# Altium schematic symbol library Nadim Altium Lib-Univ.SchLib: 387 symbols (part 2 of 2)
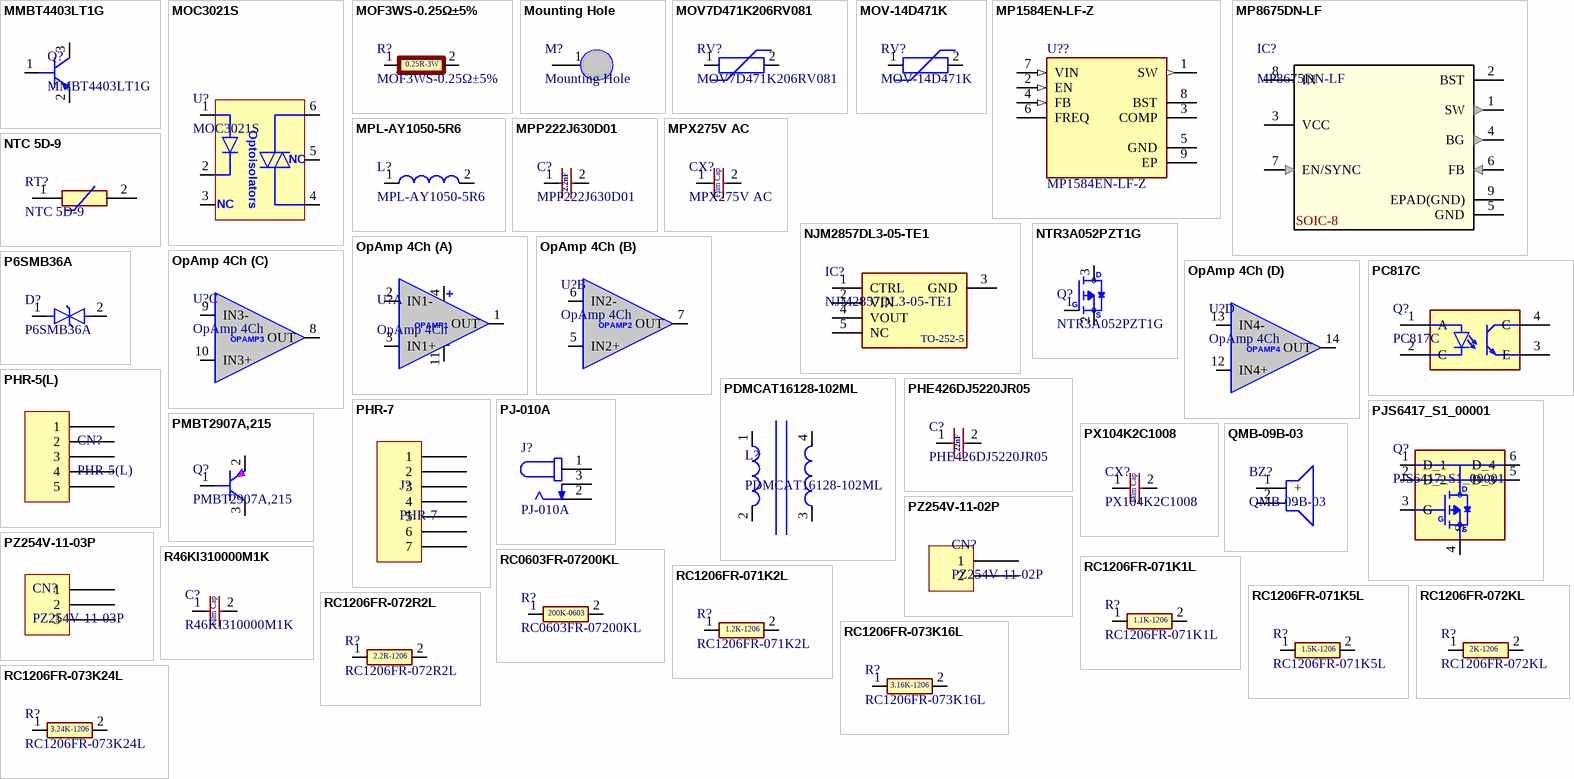
[diagram p10: symbols MMBT4403LT1G to RC1206FR-073K24L]

## MOC3021S
designator U?
Optoisolators:  50mA 400V 1.15V Two-way thyristor SMD-6P Triac, SCR Output Optoisolators ROHS; LCSC Part #: C5242; LCSC Part # op: C115465
footprint SMD-6P (SOP254P1016X400-6N)
pins: 1, 2, 3 NC, 4, 5 NC, 6
text: Optoisolators

## MOF3WS-0.25Ω±5%
designator R?
RES:  TH 0.25Ω 3W ±700ppm/℃ ±5% Plugin,D5xL15.5mm Through Hole Resistors ROHS; LCSC Part #: C714582
footprint Res_TH 3W_LS20 - duplicate - duplicate (Res_TH 3W)
pins: 1, 2
text: 0.25R-3W

## Mounting Hole
designator M?
MOUNT: Mount PCB
footprint M2.0 (2.0MM)
footprint M2.8 (2.8MM)
footprint M3.0 (2.8MM)
footprint M3.2 (3.2)
footprint M4.0 (4MM)
footprint M3.3 (3.3)
footprint M3.5 (3.5)
footprint M3.5 (3.5)
pins: 1

## MOV7D471K206RV081
designator RV?
MOV 470V 4.5 kA Varistor 1 Circuit Through Hole Disc 14mm; LCSC Part #: C22390367
footprint MOV14D471K
pins: 1, 2

## MOV-14D471K
designator RV?
MOV 470V 4.5 kA Varistor 1 Circuit Through Hole Disc 14mm; LCSC Part #: C1527439
footprint MOV14D471K
pins: 1, 2

## MP1584EN-LF-Z
designator U??
Buck Switching Regulator IC Positive Adjustable 0.8V 1 Output 3A 8-SOIC _0.154, 3.90mm Width_ Exposed Pad; MF: Monolithic Power; SnapEDA_Link: https://www.snapeda.com/parts/MP1584EN-LF-Z/Monolithic%20Power%20Systems%20Inc./view-part/587890/?ref=snap; Availability: Unavailable; Package: SOIC-8 MPS; Price: None; MP: MP1584EN-LF-Z; Value: *
footprint SOIC127 EPAD 9N (SOIC127P600X175-9N)
pins: 1 SW, 2 EN, 3 COMP, 4 FB, 5 GND (power), 6 FREQ, 7 VIN, 8 BST, 9 EP (power)

## MP8675DN-LF
designator IC?
SMPS: 4.5V to 40V Input Range / 6A Continuous Output Current / FP: SOIC-8 (8SOIC)
footprint SOIC-8 EPAD (SOIC-8)
pins: 1 SW, 2 BST, 3 VCC, 4 BG, 5 GND, 6 FB, 7 EN/SYNC, 8 IN, 9 EPAD(GND)
text: SOIC-8

## MPL-AY1050-5R6
designator L?
INDUCTOR: 5.6UH 9.8A 13 MOHM / SMD LS-9.2 D10X11 (FP-CIP1040); Manufacturer: Monolithic Power Systems; Supplier: Digikey; Supplier Part Number: 1589-MPL-AY1050-5R6CT-ND; Manufacturer Part Number: MPL-AY1050-5R6; RoHS: No; Stock: 424; Pricing: 1=1.85, 10=1.571, 25=1.448, 50=1.2938, 100=1.0782, 250=1.04736 (USD)
footprint INDUCTOR LS-9.2 D10X11 CIP1040
pins: 1, 2

## MPP222J630D01
designator C?
CAP Film: 2.2nF 630V ±5% Plugin,P=10mm Polypropylene Film Capacitors (CBB) / LS-10mm; LCSC Part #: C434238
footprint Film Capacitor LS-10MM
pins: 1, 2
text: 2.2nF

## MPX275V AC
designator CX?
CAP: Film MPX275V AC X2 / 105K 40/110/56 / LS-22.5MM
footprint CAP 470nF 275V AC
pins: 1, 2
text: Film Cap

## NJM2857DL3-05-TE1
designator IC?
LDO: IC Reg Linear 5V 1.5A / TO252-5; Manufacturer: Japan Radio Company; Supplier: Digikey; Supplier Part Number: 2129-NJM2857DL3-05-TE1TR-ND; Manufacturer Part Number: NJM2857DL3-05-TE1; RoHS: No; Pricing: 3000=0.56786, 6000=0.53947, 15000=0.51919 (USD)
footprint TO-252-5
pins: 1 CTRL, 2 VIN, 3 GND, 4 VOUT, 5 NC
text: TO-252-5

## NTC 5D-9
designator RT?
NTC: 5Ω 3A Plugin,P=7.5mm NTC Thermistors ROHS; LCSC Part #: C5240595
footprint NTC 5D-9 LS7.5MM (NTC 5D-9)
pins: 1, 2

## NTR3A052PZT1G
designator Q?
MOSFET: P-CH 20V 3.6A SOT23; LCSC Part #: C604479
footprint SOT-23-3
pins: 1 G, 2 S, 3 D

## OpAmp 4Ch
designator U?
Opamp: 4 Ch
part A pins: 1 OUT, 2 IN1-, 3 IN1+, 4 VCC, 11 GND
part B pins: 5 IN2+, 6 IN2-, 7 OUT
part C pins: 8 OUT, 9 IN3-, 10 IN3+
part D pins: 12 IN4+, 13 IN4-, 14 OUT
part A text: +; OPAMP1; -
part B text: OPAMP2
part C text: OPAMP3
part D text: OPAMP4

## P6SMB36A
designator D?
DIODE TVS: 12A 600W 49.9V 37.8V 30.8V  ESD and Surge Protection (TVS/ESD) / SMB(DO-214AA); Manufacturer_Name: Wurth Elektronik; Manufacturer_Part_Number: 824521302; Datasheet Link: https://www.we-online.de/katalog/datasheet/824521302.pdf; Height: 2.65mm; Mouser Part Number: 710-824521302; Mouser Price/Stock: https://www.mouser.co.uk/ProductDetail/Wurth-Elektronik/824521302?qs=sPbYRqrBIVltb23DqWk1Tg%3D%3D; LCSC Part #: C7436541
footprint DO-214AA(SMB)
pins: 1, 2

## PC817C
designator Q?
OPTO: 5kV 50mA 100mV@1mA,20mA 1 6V 1.2V DC SMD-4P Transistor, Photovoltaic Output Optoisolators; LCSC PART #: C3025164
footprint PC817C SMD-4P (SMD-4P)
pins: 1 A, 2 C, 3 E, 4 C

## PDMCAT16128-102ML
designator L?
INDUCTOR: 1mH@1kHz 13mΩ 2 Plugin,20x18mm Choke, Common Mode Filters ROHS; LCSC Part #: C2829011
footprint CHOKE_10*7 (Res_TH 3W)
pins: 1, 2, 3, 4

## PHE426DJ5220JR05
designator C?
CAP Film: 22nF 100V ±5% Plugin,LS=5mm Polypropylene Film Capacitors (CBB); LCSC Part #: C3800208
footprint Film Capacitor LS-5MM
pins: 1, 2
text: 22nF

## PHR-5(L)
designator CN?
HOUSING: 2.0mm 5P 6mm; LCSC Part #: C2941743
pins: 1, 2, 3, 4, 5

## PHR-7
designator J?
HOUSING: 2MM 7PINS; LCSC Part #: C5349745
pins: 1, 2, 3, 4, 5, 6, 7

## PJ-010A
designator J?
CON: 2.0 mm Center Pin, 2.5 A, Vertical, Panel Mount, Dc Power Jack Connector; LCSC Part #: C3095819
footprint CON CUI_PJ-010A
pins: 1, 2, 3

## PJS6417_S1_00001
designator Q?
MOSFET: P-Channel 20 V 6.5A (Ta) 2W SOT-23-6; LCSC Part #: C6252099
footprint SOT-23-6 (SOT95P280X145-6N)
pins: 1 D_1, 2 D_2, 3 G, 4 S, 5 D_3, 6 D_4
text: D

## PMBT2907A,215
designator Q?
TRANSISTOR TH: 60V 250mW 600mA PNP SOT-23(B-E-C); LCSC PART #: C8665
footprint TO-92
pins: 1 B, 2 E, 3 C

## PX104K2C1008
designator CX?
CAP: Film 100NF PX104K2C1008 AC X2 / LS-10MM
footprint FILM CAP LS-10MM X2 AC
pins: 1, 2
text: Film Cap

## PZ254V-11-02P
designator CN?
Header Male: 2.5mm 2P 6mm; LCSC Part #: C492401
footprint JST 2P 2.54MM-NF (JST 2P 2.54MM)
pins: 1, 2

## PZ254V-11-03P
designator CN?
Header Male: 2.5mm 3P 6MM; LCSC Part #: C2937625
footprint 3pos
pins: 1, 2, 3

## QMB-09B-03
designator BZ?
Loudspeaker or Buzzer: 85dB, Passive, Dia-9mm, LS-4MM; LCSC Part #: C96256
footprint Buzzer LS-4MM
pins: 1 +, 2 -

## R46KI310000M1K
designator C?
CAP: 100nF ±20% X2 275V Plugin,P=15mm Safety Capacitors ROHS; LCSC Part #: C696790
footprint CAP_FILM_LS15
pins: 1, 2
text: Film Cap

## RC0603FR-07200KL
designator R?
RES: 200K OHM 1% .125W 0603 75V; LCSC Part #: C105574
footprint 0805+0603 RES FP
pins: 1, 2
text: 200K-0603

## RC1206FR-071K1L
designator R?
RES: 1.1K OHM 1% 1/4W 1206
footprint 1206-RES
pins: 1, 2
text: 1.1K-1206

## RC1206FR-071K2L
designator R?
RES: 1.2K OHM 1% 1/4W 1206
footprint 1206-RES
pins: 1, 2
text: 1.2K-1206

## RC1206FR-071K5L
designator R?
RES: 1.5K OHM 1% 1/4W 1206
footprint 1206-RES
pins: 1, 2
text: 1.5K-1206

## RC1206FR-072KL
designator R?
RES: 2K OHM 1% 1/4W 1206
footprint 1206-RES
pins: 1, 2
text: 2K-1206

## RC1206FR-072R2L
designator R?
RES: 2.2 OHM 1% 1/4W 1206; LCSC Part #: C137327
footprint 1206-RES
pins: 1, 2
text: 2.2R-1206

## RC1206FR-073K16L
designator R?
RES: 3.16K OHM 1% 1/4W 1206
footprint 1206-RES
pins: 1, 2
text: 3.16K-1206

## RC1206FR-073K24L
designator R?
RES: 3.24K OHM 1% 1/4W 1206
footprint 1206-RES
pins: 1, 2
text: 3.24K-1206

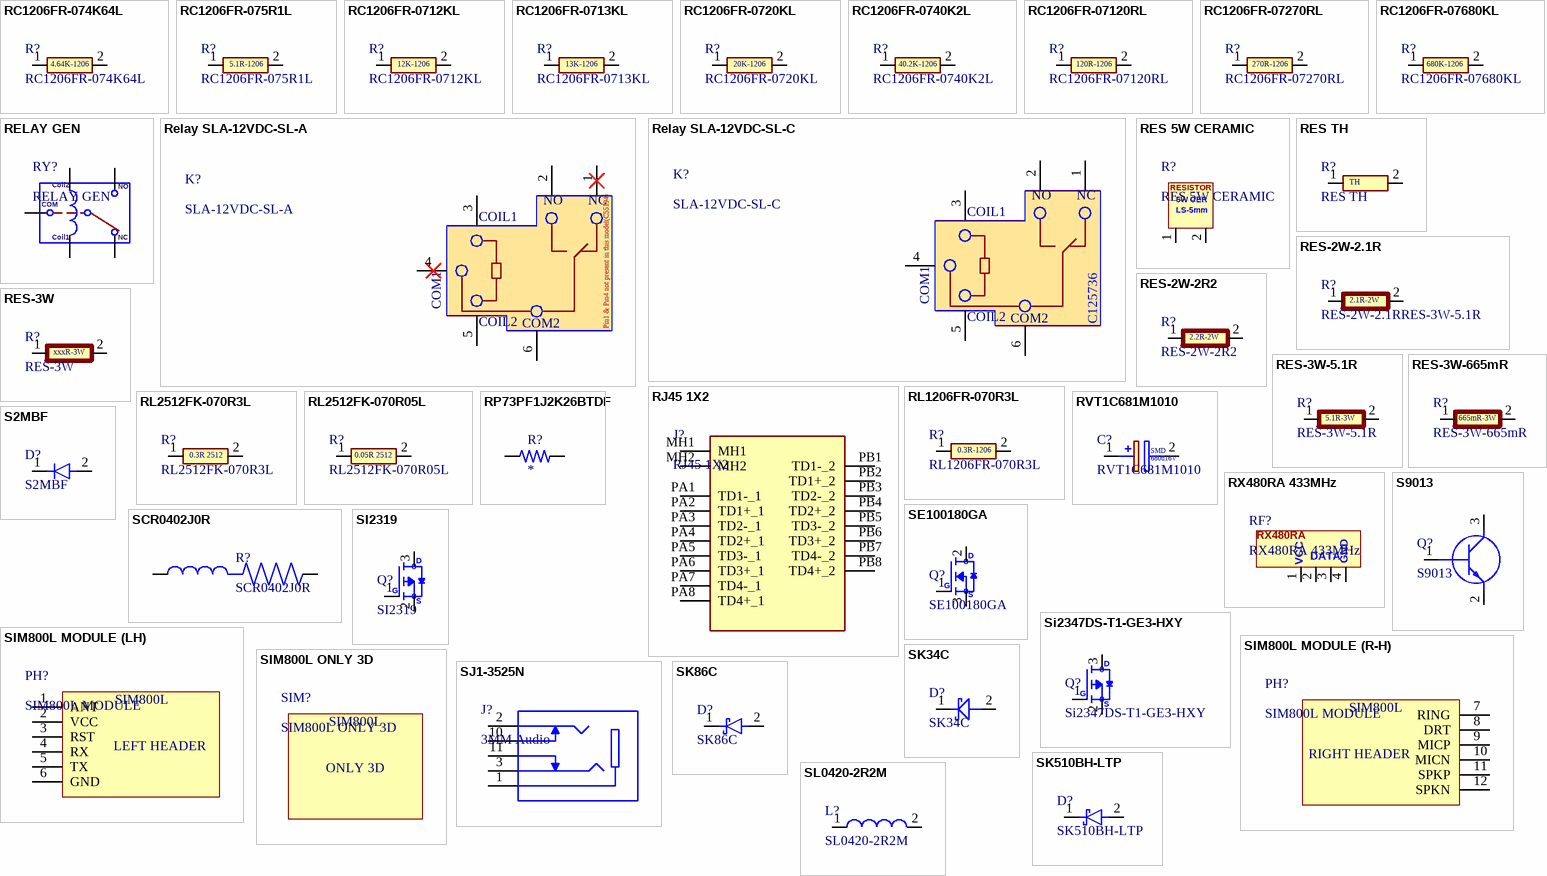
[diagram p7: symbols RC1206FR-074K64L to SL0420-2R2M]

## RC1206FR-074K64L
designator R?
RES: 4.64K OHM 1% 1/4W 1206; LCSC Part #: C488837
footprint 1206-RES
pins: 1, 2
text: 4.64K-1206

## RC1206FR-075R1L
designator R?
RES: 5.1 OHM 1% 1/4W 1206
footprint 1206-RES
pins: 1, 2
text: 5.1R-1206

## RC1206FR-0712KL
designator R?
RES: 12K OHM 1% 1/4W 1206
footprint 1206-RES
pins: 1, 2
text: 12K-1206

## RC1206FR-0713KL
designator R?
RES: 13K OHM 1% 1/4W 1206
footprint 1206-RES
pins: 1, 2
text: 13K-1206

## RC1206FR-0720KL
designator R?
RES: 20K OHM 1% 1/4W 1206; LCSC Part #: C114940
footprint 1206-RES
pins: 1, 2
text: 20K-1206

## RC1206FR-0740K2L
designator R?
RES: 40.2K OHM 1% 1/4W 1206
footprint 1206-RES
pins: 1, 2
text: 40.2K-1206

## RC1206FR-07120RL
designator R?
RES: 120 OHM 1% 1/4W 1206; LCSC PART #: C114928
footprint 1206-RES
pins: 1, 2
text: 120R-1206

## RC1206FR-07270RL
designator R?
RES: 270 OHM 1% 1/4W 1206
footprint 1206-RES
pins: 1, 2
text: 270R-1206

## RC1206FR-07680KL
designator R?
RES: 680K OHM 1% 1/4W 1206
footprint 1206-RES
pins: 1, 2
text: 680K-1206

## RELAY GEN
designator RY?
RELAY: Single-Pole, Double-Throw Relay
pins: COIL1, COIL2, COM, NC, NO
text: Coil2; Coil1

## Relay SLA-12VDC-SL-A
designator K?, comment SLA-12VDC-SL-A
RELAY: 250V@AC 12V 30A Normal Open:1A(SPST-Normal Open) Plugin,27.6x32mm; Manufacturer_Name: CUI Devices; Manufacturer_Part_Number: PR23-12V-900-1C; Datasheet Link: https://www.cuidevices.com/product/resource/pr23.pdf; Height: 20.3mm; Mouser Part Number: 179-PR23-12V-900-1C; Mouser Price/Stock: https://www.mouser.co.uk/ProductDetail/CUI-Devices/PR23-12V-900-1C?qs=T%252BzbugeAwjgw70sSt2DS0w%3D%3D; Arrow Part Number: PR23-12V-900-1C; Arrow Price/Stock: https://www.arrow.com/en/products/pr23-12v-900-1c/cui-devices?region=nac; LCSC PART #: C55194
footprint Relay 30A 12V (L-32.5 mm   W-27.4 mm   H-20.4 mm)
pins: 1 NC, 2 NO, 3 COIL1, 4 COM_1, 5 COIL2, 6 COM_2
text: COM1; COM2; Pin1 & Pin4 not present in this model(C55194)

## Relay SLA-12VDC-SL-C
designator K?, comment SLA-12VDC-SL-C
RELAY: 250V@AC 12V 30A SPDT (1 Form C) Plugin,27.6x32mm Power Relays ROHS; Manufacturer_Name: CUI Devices; Manufacturer_Part_Number: PR23-12V-900-1C; Datasheet Link: https://www.cuidevices.com/product/resource/pr23.pdf; Height: 20.3mm; Mouser Part Number: 179-PR23-12V-900-1C; Mouser Price/Stock: https://www.mouser.co.uk/ProductDetail/CUI-Devices/PR23-12V-900-1C?qs=T%252BzbugeAwjgw70sSt2DS0w%3D%3D; Arrow Part Number: PR23-12V-900-1C; Arrow Price/Stock: https://www.arrow.com/en/products/pr23-12v-900-1c/cui-devices?region=nac; LCSC PART #: C55194
footprint Relay 30A 12V (L-32.5 mm   W-27.4 mm   H-20.4 mm)
pins: 1 NC, 2 NO, 3 COIL1, 4 COM_1, 5 COIL2, 6 COM_2
text: COM1; COM2; C125736

## RES 5W CERAMIC
designator R?
RES CER: 5W CERAMIC LS-5MM
pins: 1, 2
text: RESISTOR; 5W CER; LS-5mm

## RES TH
designator R?
RES: TH
footprint 1206-RES
pins: 1, 2
text: TH

## RES-2W-2.1R
designator R?, comment RES-2W-2.1RRES-3W-5.1R
RES: 2.1 OHM 1% 2W TH
footprint Res_TH 3W
pins: 1, 2
text: 2.1R-2W

## RES-2W-2R2
designator R?
RES: 2.2 OHM 1% 2W TH
footprint RES TH 2W LS-8mm
pins: 1, 2
text: 2.2R-2W

## RES-3W
designator R?
RES:  3W TH; Parameter 1: *
footprint Res_TH 3W
pins: 1, 2
text: xxxR-3W

## RES-3W-5.1R
designator R?
RES: 5.1 OHM 1% 3W TH
footprint Res_TH 3W
pins: 1, 2
text: 5.1R-3W

## RES-3W-665mR
designator R?
RES: 665m OHM 5% 3W TH
footprint Res_TH 3W
pins: 1, 2
text: 665mR-3W

## RJ45 1X2
designator J?
Connector; Mfr. Part #: RJ01-X5XX-092
footprint RJ45 Module 1X2
pins: MH1, MH2, PA1 TD1-_1, PA2 TD1+_1, PA3 TD2-_1, PA4 TD2+_1, PA5 TD3-_1, PA6 TD3+_1, PA7 TD4-_1, PA8 TD4+_1, PB1 TD1-_2, PB2 TD1+_2, PB3 TD2-_2, PB4 TD2+_2, PB5 TD3-_2, PB6 TD3+_2, PB7 TD4-_2, PB8 TD4+_2

## RL1206FR-070R3L
designator R?
RES: 0.3 OHM 1% 1/4W / 1206
footprint 1206-RES
pins: 1, 2
text: 0.3R-1206

## RL2512FK-070R3L
designator R?
RES: 0.3 OHM 1% 1W 2512
footprint 2512 RES (RESC6432X70N)
pins: 1, 2
text: 0.3R 2512

## RL2512FK-070R05L
designator R?
RES: 0.05 OHM(50mR) 1% 1W 2512; LCSC Part #: C876461
footprint 2512 RES (RESC6432X70N)
pins: 1, 2
text: 0.05R 2512

## RP73PF1J2K26BTDF
designator R?
MP: RP73PF1J2K26BTDF; Package: None; Price: None; Value: *; Availability: Unavailable
footprint RESC1608X50N
pins: 1, 2

## RVT1C681M1010
designator C?
CAP SMD: 680UF 20% 16V SMD; LCSC PART #: C335987
footprint CAP SMD D10X10.2MM FP
pins: 1 +, 2 -
text: SMD; 680u16V

## RX480RA 433MHz
designator RF?
RF: RX480RA 433MHz D6MM 0402 T1 V4; LCSC Part #: C18198307
footprint RX480RA 433MHz
footprint RX480RA 433MHz - HORIZONTAL
pins: 1, 2, 3, 4
text: RX480RA; VCC; DATA; GND

## S2MBF
designator D?
DIODE: GEN 1KV 2A / DO-214AA, SMBF; LCSC Part #: C2993740
footprint SMBF (DO-214AA)
pins: 1, 2

## S9013
designator Q?
TRANSISTOR: 25V 300mW 120@50mA,1V 500mA NPN SOT-23; LCSC PART #: C5184425
footprint SOT-23-3
pins: 1 B, 2 E, 3 C

## SCR0402J0R
designator R?
REs: 0 OHM 5% 1/4W 0402; LCSC Part #: C3017451
footprint 0402-RES
pins: 1, 2

## SE100180GA
designator Q?
MOSFET: 100V 180A 300W 2.5mΩ@10V,40A 4V 1 N-channel TO-220 MOSFETs ROHS; LCSC Part #: C359175
footprint TO-220
pins: 1 G, 2 D, 3 S

## SI2319
designator Q?
MOSFET SMD:  P-CH 40V 5A SOT-23; LCSC Part #: C5337197
footprint SOT-23-3
pins: 1 G, 2 S, 3 D

## Si2347DS-T1-GE3-HXY
designator Q?
MOSFET: P-CH 30V 6A SOT23; LCSC Part #: C22366663
footprint SOT-23-3
pins: 1 G, 2 S, 3 D

## SIM800L MODULE (LH)
designator PH?, comment SIM800L MODULE
MODULE: SIM800L GSM 2G; LCSC Part #: C40877
footprint SIM800L MODULE (LEFT H)
pins: 1 ANT, 2 VCC, 3 RST, 4 RX, 5 TX, 6 GND
text: SIM800L; LEFT HEADER

## SIM800L MODULE (R-H)
designator PH?, comment SIM800L MODULE
MODULE: SIM800L GSM 2G; LCSC Part #: C40877
footprint SIM800L MODULE (RIGHT H)
pins: 7 RING, 8 DRT, 9 MICP, 10 MICN, 11 SPKP, 12 SPKN
text: SIM800L; RIGHT HEADER

## SIM800L ONLY 3D
designator SIM?
MODULE: SIM800L ONLY 3D
footprint SIM800L ONLY 3D New (ONLY 3D)
text: SIM800L; ONLY 3D

## SJ1-3525N
designator J?, comment 3MM Audio
AUDIO: 3.5mm headphone jack 30V 500mA Plugin Audio Connectors; Manufacturer_Name: CUI Devices; Manufacturer_Part_Number: SJ1-3525N; Datasheet Link: https://www.cuidevices.com/product/resource/pdf/sj1-352xn.pdf; Mouser Part Number: 490-SJ1-3525N; Mouser Price/Stock: https://www.mouser.co.uk/ProductDetail/CUI-Devices/SJ1-3525N?qs=WyjlAZoYn505QPmBO3I74g%3D%3D; Arrow Part Number: SJ1-3525N; Arrow Price/Stock: https://www.arrow.com/en/products/sj1-3525n/cui-devices?region=nac; LCSC Part #: C668604
footprint SJ13525N FP (3mm Audio)
pins: 1, 2, 3, 10, 11

## SK34C
designator D?
DIODE: Schottky 40V 550mV@3A 3A SMC(DO-214AB)  Diode; LCSC PART #: C105698
footprint SMC (DO-214AB)
pins: 1 K, 2 A

## SK86C
designator D?
DIODE: SCHOTTKY 60V 8A SMC(DO-214AB); LCSC Part #: C64338
footprint SMC (DO-214AB)
pins: 1, 2

## SK510BH-LTP
designator D?
DIODE: SCHOTTKY 850mV@5A 100V DO-214AA(SMB); LCSC PART #: C779066
footprint SMB (DO-214AA)
pins: 1, 2

## SL0420-2R2M
designator L?
INDUCTOR: 2.2uH 4.5A ±20% 5A SMD,4.5x4.1mm Inductors (SMD) ROHS; LCSC Part #: C22463806
footprint IND D4.5x4.1
pins: 1, 2

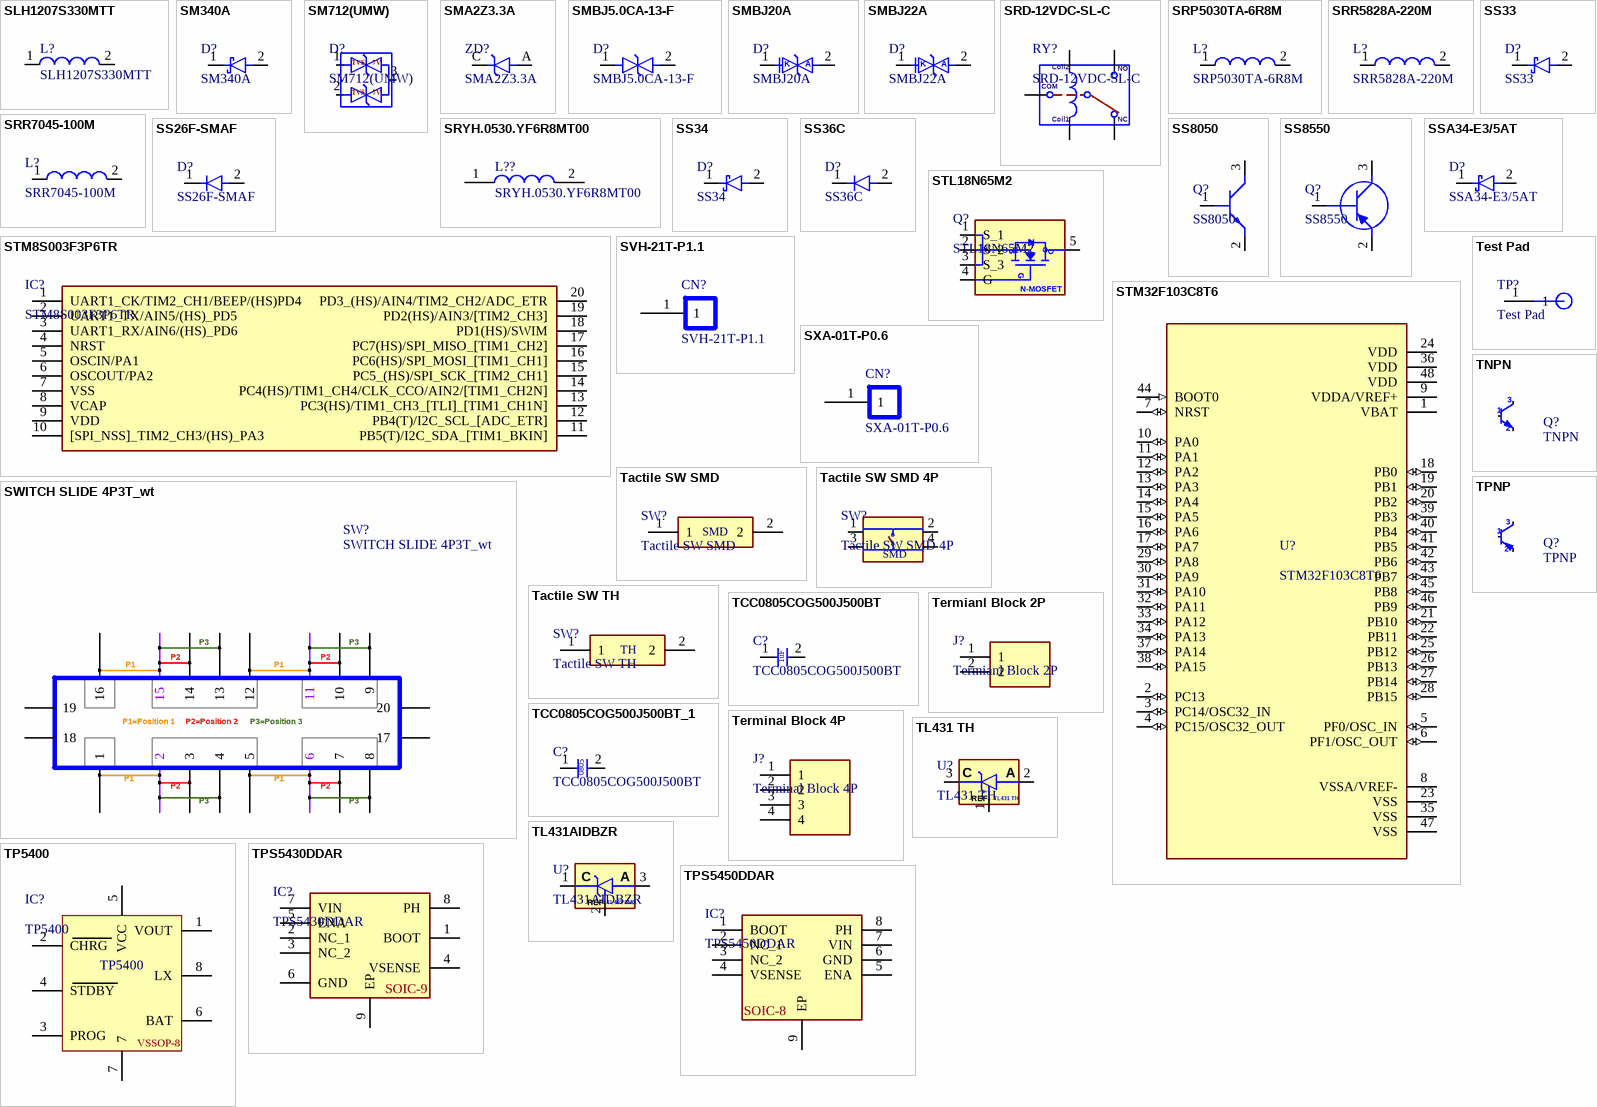
[diagram p8: symbols SLH1207S330MTT to TPS5450DDAR]

## SLH1207S330MTT
designator L?
3A 33uH ±20% SMD Power Inductors ROHS; LCSC Part #: C181844
footprint INDUCTOR LS-10 D12X12 (INDUCTOR 12X12, 10MM)
pins: 1, 2

## SM340A
designator D?
DIODE: SCHOTTKY 40V-3A 500mV@3A 3A DO-214AC(SMA); LCSC PART #: C383313
footprint DO-214AC(SMA)
pins: 1, 2

## SM712(UMW)
designator D?
DIODE TVS: 7V WM 11VC Voltage - Breakdown (Min) 6V / SOT-23; LCSC Part #: C7529144
footprint SOT-23-3
pins: 1, 2, 3
text: TVS; 7V

## SMA2Z3.3A
designator ZD?
DIODE: ZENER 3.3-3.47V 2W SMA; LCSC Part #: C22391967
footprint SMA
pins: A, C

## SMBJ5.0CA-13-F
designator D?
DIODE TVS: SMBJ5.0CA Series 600 W 5.0 V Surface Mount / DO-214AA; Manufacturer: Diodes; Package Body Material: Plastic; Diode Element Material: SILICON; Voltage Rating (DC): 5V; Number of Elements: 1; Max Power Dissipation: 600W; Polarity: Bidirectional; Max Breakdown Voltage: 7.23V; Max Surge Current: 65.2A; Reverse Breakdown Voltage: 6.4V; Clamping Voltage: 9.2V; Max Reverse Leakage Current: 1.6mA; Test Current: 10mA; Value: 1nF; Diode Type: TRANS VOLTAGE SUPPRESSOR; Time @ Peak Reflow Temperature-Max (s): 5s; Supplier: Digikey; Supplier Part Number: SMBJ5.0CA-FDICT-ND; Manufacturer Part Number: SMBJ5.0CA-13-F; RoHS: Yes; Category: TVS Diodes; Stock: 235596; Pricing: 1=0.26, 10=0.201, 100=0.1208, 500=0.11182, 1000=0.07875 (USD); Mounting Technology: Surface Mount; Case/Package: SMB; Pins: 2; Terminal Finish: Tin; Package Shape: Rectangular; Min Operating Temperature: -55°C; Max Operating Temperature: 150°C; Package Quantity: 1; Packaging: Tape and Reel; Series: SMBJ; Power Dissipation: 600W; Direction: Bidirectional; Reverse Standoff Voltage: 5V; Breakdown Voltage: 6.4V; Peak Pulse Power: 600W; Termination: SMD/SMT; Min Breakdown Voltage: 6.4V; Peak Pulse Current: 65.2A; Leakage Current: 1.6mA; Working Voltage: 5V; Max Output current: 65.2A; Clamping Voltage-Max: 9.2V; Moisture Sensitivity Level: 1; JESD-30 Code: R-PDSO-C2; Surface Mount: Yes; Terminal Position: DUAL; Technology: AVALANCHE; Peak Reflow Temperature (Cel): 245°C; Terminal Form: C BEND; Length: 4.57mm; Width: 3.9mm; Height: 2.62mm; Radiation Hardening: No; Lead Free: Contains Lead; RoHS Compliant: Yes
footprint DO-214AA(SMD) TVS
pins: 1, 2

## SMBJ20A
designator D?
DIODE TVS: 18.6A 600W 32.4V 24.5V Unidirectional 20V SMB ESD and Surge Protection (TVS/ESD) ROHS; LCSC Part #: C726828
footprint SMB (DO-214AA)
pins: 1, 2
text: K; A

## SMBJ22A
designator D?
DIODE TVS: 16.9A 600W 35.5V 24.4V 22V SMB ESD and Surge Protection (TVS/ESD) ROHS; LCSC Part #: C5331106
footprint SMB (DO-214AA)
pins: 1, 2
text: K; A

## SRD-12VDC-SL-C
designator RY?
RELAY: 250V@AC 12V 15A One Conversion: 1C (SPDT-Conversion) Plugin,15.6x19.2mm Power Relays ROHS; LCSC Part #: C30431
footprint RELAY_SRD-12VDC-SL-C
pins: COIL1, COIL2, COM, NC, NO
text: Coil2; Coil1

## SRP5030TA-6R8M
designator L?
INDUCTOR: 6.8UH 4A 76.2 MOHM SMD; Manufacturer: Bourns; Core Material: Carbonyl Powder; Saturation Current: 4.3A; Shielding: Shielded; DC Resistance (DCR): 76.2mR; Self Resonant Frequency: 19MHz; Test Frequency: 100kHz; Tolerance: 20%; Supplier: Digikey; Supplier Part Number: SRP5030TA-6R8MCT-ND; Manufacturer Part Number: SRP5030TA-6R8M; RoHS: No; Category: Fixed Inductors; Stock: 3620; Pricing: 1=1.41, 10=1.094, 25=0.9888, 50=0.9162, 100=0.8487, 250=0.76684, 500=0.70996, 1000=0.65708 (USD); Mounting Technology: Surface Mount; Case/Package: Nonstandard; Min Operating Temperature: -40°C; Max Operating Temperature: 150°C; Packaging: Cut Tape; Value: 6.8uH; Current Rating: 4A; RMS Current (Irms): 4A; Inductance Tolerance: 20%; Series: SRP5030TA; Length: 0.224inch; Width: 0.205inch; Height - Seated (Max): 0.118inch; Ratings: AEC-Q200; Reach SVHC Compliant: No; ComponentLink1URL: http://www.farnell.com/datasheets/2360568.pdf?src-supplier=Farnell; ComponentLink1Description: http://www.farnell.com/datasheets/2360568.pdf?src-supplier=Farnell; ComponentLink2URL: http://www.farnell.com/datasheets/2360568.pdf?src-supplier=Element14; ComponentLink2Description: http://www.farnell.com/datasheets/2360568.pdf?src-supplier=Element14; ComponentLink3URL: https://www.bourns.com/docs/Product-Datasheets/SRP5030TA.pdf?src-supplier=Digikey; ComponentLink3Description: https://www.bourns.com/docs/Product-Datasheets/SRP5030TA.pdf?src-supplier=Digikey; ComponentLink4URL: http://www.bourns.com/docs/Product-Datasheets/SRP5030TA.pdf?src-supplier=Digikey; ComponentLink4Description: http://www.bourns.com/docs/Product-Datasheets/SRP5030TA.pdf?src-supplier=Digikey; ComponentLink5URL: http://www.farnell.com/datasheets/2360568.pdf?src-supplier=Newark; ComponentLink5Description: http://www.farnell.com/datasheets/2360568.pdf?src-supplier=Newark
footprint INDUCTOR LS-3.9 D5.8X5.8
pins: 1, 2

## SRR5828A-220M
designator L?
INDUCTOR: 22UH 1.75A SHLD / SMD LS-3.9MM D5.8X5.8; Manufacturer: Bourns; Supplier: Digikey; Supplier Part Number: 118-SRR5828A-220MTR-ND; Manufacturer Part Number: SRR5828A-220M; RoHS: No; Pricing: 400=0.66665 (USD)
footprint INDUCTOR LS-3.9 D5.8X5.8
pins: 1, 2

## SRR7045-100M
designator L?
INDUCTOR: 10UH 1.9A ±20% 1.9A SMD,7x7mm Power Inductors / SMD LS-6MM D7X7; LCSC PART #: C1329516
footprint INDUCTOR LS-6MM D7X7
pins: 1, 2

## SRYH.0530.YF6R8MT00
designator L??
INDUCTOR: 6.8UH ±20% SMD,5.3x5.6mm Power Inductors; LCSC PART #: C5122867
footprint INDUCTOR D5.3X5.7
pins: 1, 2

## SS26F-SMAF
designator D?
DIODE: GEN 2A 60V 700mV@2A SMAF Diodes - General Purpose ROHS; Manufacturer_Name: Diodes Incorporated; Manufacturer_Part_Number: B230AF-13; Datasheet Link: https://www.diodes.com/assets/Datasheets/B220AFB230AFB240AFB245AF.pdf; Height: 1.1mm; Mouser Part Number: 621-B230AF-13; Mouser Price/Stock: https://www.mouser.co.uk/ProductDetail/Diodes-Incorporated/B230AF-13?qs=HXFqYaX1Q2zqB8pPoaCVUg%3D%3D; Arrow Part Number: B230AF-13; Arrow Price/Stock: https://www.arrow.com/en/products/b230af-13/diodes-incorporated; LCSC Part #: C2758577
footprint SMAF SMD
pins: 1, 2

## SS33
designator D?
DIODE: SCHOTTKY 30V-3A Single 550mV@3A 3A Schottky Diodes ROHS / DO-214AC(SMA); LCSC Part #: C64998
footprint SMA (DO-214AC)
pins: 1, 2

## SS34
designator D?
DIODE: SCHOTTKY 40V 3A / DO-214AC(SMA); LCSC PART #: C8678
footprint SMA (DO-214AC)
pins: 1, 2

## SS36C
designator D?
DIODE: GEN 60V Single 700mV@3A 3A Schottky Diodes ROHS / SMC(DO-214AB); Manufacturer_Name: Diodes Incorporated; Manufacturer_Part_Number: B550C-13-F; Datasheet Link: https://www.mouser.com/ds/2/115/ds13012-1142526.pdf; Height: 2.5mm; Mouser Part Number: 621-B550C-F; Mouser Price/Stock: https://www.mouser.co.uk/ProductDetail/Diodes-Incorporated/B550C-13-F?qs=UEP5Ic6BRave1jzuZzz4FA%3D%3D; Arrow Part Number: B550C-13-F; Arrow Price/Stock: https://www.arrow.com/en/products/b550c-13-f/diodes-incorporated?region=nac; LCSC PART #: C5449114
footprint DO-214AB(SMC)
pins: 1, 2

## SS8050
designator Q?
TRANSISTOR: 25V 300mW 1.5A NPN Bipolar (BJT) / SOT-23; LCSC PART #: C916392
footprint SOT-23-3
pins: 1 B, 2 E, 3 C

## SS8550
designator Q?
TRANSISTOR: 25V 300mW 120@100mA,1.0V 1.5A PNP SOT-23; LCSC PART #: C7420371
footprint SOT-23-3
pins: 1 B, 2 E, 3 C

## SSA34-E3/5AT
designator D?
DIODE: SCHOTTKY 40V 3A DO214AC; Manufacturer: Vishay Semiconductors; Max Surge Current: 75A; Max Reverse Current: 200uA; Forward Voltage: 490mV; Supplier: Digikey; Supplier Part Number: SSA34-E3/5ATGICT-ND; Manufacturer Part Number: SSA34-E3/5AT; RoHS: Yes; Category: Rectifier Diodes; Stock: 4334; Pricing: 1=0.49, 10=0.326, 100=0.2209, 500=0.17244, 1000=0.15637, 2000=0.14267 (USD); Mounting Technology: Surface Mount; Case/Package: SMA; Min Operating Temperature: -65°C; Max Operating Temperature: 150°C; Packaging: Tape and Reel; Package Quantity: 1; Forward Current: 3A; Average Rectified Current: 3A; Max Reverse Leakage Current: 200uA; Max Repetitive Reverse Voltage (Vrrm): 40V; Peak Non-Repetitive Surge Current: 75A; Max Reverse Voltage (DC): 40V; Series: -; Radiation Hardening: No; Lead Free: Lead Free; RoHS Compliant: Yes; ComponentLink1URL: https://datasheet.ciiva.com/16489/ssa33l-16489359.pdf?src-supplier=Future+Electronics; ComponentLink1Description: https://datasheet.ciiva.com/16489/ssa33l-16489359.pdf?src-supplier=Future+Electronics
footprint DO-214AC(SMA)
pins: 1, 2

## STL18N65M2
designator Q?
MOSFET: N-CH 650V 8A POWERFLAT HV / (VDFN-8-Power); LCSC Part #: C2970653
footprint VDFN-8-Power (STL18N65M2)
pins: 1 S_1, 2 S_2, 3 S_3, 4 G, 5 D
text: S; N-MOSFET

## STM8S003F3P6TR
designator IC?
MCU: Mainstream cost-effective series 8-bit MCU, featuring 8 KB Flash, 16 MHz CPU, and integrated EEPROM / TSSOP-20; LCSC Part #: C52717
footprint TSSOP-20
pins: 1 UART1_CK/TIM2_CH1/BEEP/(HS)PD4, 2 UART1_TX/AIN5/(HS)_PD5, 3 UART1_RX/AIN6/(HS)_PD6, 4 NRST, 5 OSCIN/PA1, 6 OSCOUT/PA2, 7 VSS, 8 VCAP, 9 VDD, 10 [SPI_NSS]_TIM2_CH3/(HS)_PA3, 11 PB5(T)/I2C_SDA_[TIM1_BKIN], 12 PB4(T)/I2C_SCL_[ADC_ETR], 13 PC3(HS)/TIM1_CH3_[TLI]_[TIM1_CH1N], 14 PC4(HS)/TIM1_CH4/CLK_CCO/AIN2/[TIM1_CH2N], 15 PC5_(HS)/SPI_SCK_[TIM2_CH1], 16 PC6(HS)/SPI_MOSI_[TIM1_CH1], 17 PC7(HS)/SPI_MISO_[TIM1_CH2], 18 PD1(HS)/SWIM, 19 PD2(HS)/AIN3/[TIM2_CH3], 20 PD3_(HS)/AIN4/TIM2_CH2/ADC_ETR

## STM32F103C8T6
designator U?
Mainstream enhanced ARM Cortex-M3 MCU, featuring 64 KB Flash, 72 MHz CPU, motor control, USB, and CAN.; LCSC Part #: C8734
footprint LQFP-48
pins: 1 VBAT (power), 2 PC13 (io), 3 PC14/OSC32_IN (io), 4 PC15/OSC32_OUT (io), 5 PF0/OSC_IN (io), 6 PF1/OSC_OUT (io), 7 NRST (io), 8 VSSA/VREF- (power), 9 VDDA/VREF+ (power), 10 PA0 (io), 11 PA1 (io), 12 PA2 (io), 13 PA3 (io), 14 PA4 (io), 15 PA5 (io), 16 PA6 (io), 17 PA7 (io), 18 PB0 (io), 19 PB1 (io), 20 PB2 (io), 21 PB10 (io), 22 PB11 (io), 23 VSS (power), 24 VDD (power), 25 PB12 (io), 26 PB13 (io), 27 PB14 (io), 28 PB15 (io), 29 PA8 (io), 30 PA9 (io), 31 PA10 (io), 32 PA11 (io), 33 PA12 (io), 34 PA13 (io), 35 VSS (power), 36 VDD (power), 37 PA14 (io), 38 PA15 (io), 39 PB3 (io), 40 PB4 (io), 41 PB5 (io), 42 PB6 (io), 43 PB7 (io), 44 BOOT0 (in), 45 PB8 (io), 46 PB9 (io), 47 VSS (power), 48 VDD (power)

## SVH-21T-P1.1
designator CN?
HOUSING CONTACT: 18-22 0.33 - 0.83; LCSC Part #: C160349
pins: 1

## SWITCH SLIDE 4P3T_wt
designator SW?
SWITCH SLIDE 4P3T 300MA 125V
footprint SW SLIDE 4P3T (SWITCH SLIDE 4P3T 300MA 125V)
pins: 1, 2, 3, 4, 5, 6, 7, 8, 9, 10, 11, 12, 13, 14, 15, 16, 17, 18, 19, 20
text: P3; P2; P1; P1=Position 1; P2=Position 2; P3=Position 3

## SXA-01T-P0.6
designator CN?
HOUSING CONTACT: 20~24 0.22~0.5; LCSC Part #: C160230
pins: 1

## Tactile SW SMD
designator SW?
SW: 3.5mm 2.5mm Rectangle button 50mA 6mm 300gf 12V SMD; LCSC Part #: C2888954
footprint Tactile SW 3.7X6.1 P7.5mm
pins: 1, 2
text: SMD

## Tactile SW SMD 4P
designator SW?
SW: 3.2mm 2.5mm Oval button Standing paste SPST SMD Tactile Switches ROHS; LCSC Part #: C2888954
footprint SW TACTILE 4P
pins: 1, 2, 3, 4
text: SMD

## Tactile SW TH
designator SW?
SW: Tactile SW TH
pins: 1, 2
text: TH

## TCC0805COG500J500BT
designator C?
CAP: CER 50pF 50V X7R 0805; LCSC Part #: C20539435
footprint 1206-CAP
pins: 1, 2
text: 1uF

## TCC0805COG500J500BT_1
designator C?, comment TCC0805COG500J500BT
CAP CER: 50V 50pF C0G ±5% 0805; LCSC Part #: C20539435
footprint 0805-CAP
pins: 1, 2
text: 0805

## Termianl Block 2P
designator J?
TERMINAL: 5.08 pitch 2P, Screw Terminal block; Manufacturer: Adam Equipment; Manufacturer Part Number: EB21A-02-D; Supplier 1: Digikey; RoHS: No; Category: Terminal Blocks; Stock 1: 19046; Pricing 1: 1=0.75, 10=0.465, 25=0.398, 50=0.3578, 100=0.3503, 250=0.29816, 500=0.28324, 1000=0.25343, 5000=0.19827 (USD); ComponentLink1URL: http://datasheet.octopart.com/EB21A-02-D-Adam-Tech-datasheet-134867641.pdf?src-supplier=Digikey; ComponentLink1Description: http://datasheet.octopart.com/EB21A-02-D-Adam-Tech-datasheet-134867641.pdf?src-supplier=Digikey; ComponentLink2URL: http://datasheet.octopart.com/EB21A-02-D-Adam-Tech-datasheet-134867641.pdf?src-supplier=Verical; ComponentLink2Description: http://datasheet.octopart.com/EB21A-02-D-Adam-Tech-datasheet-134867641.pdf?src-supplier=Verical; ComponentLink3URL: http://datasheet.octopart.com/EB21A-02-D-Adam-Tech-datasheet-134867641.pdf?src-supplier=Onlinecomponents.com; ComponentLink3Description: http://datasheet.octopart.com/EB21A-02-D-Adam-Tech-datasheet-134867641.pdf?src-supplier=Onlinecomponents.com; ComponentLink4URL: https://datasheet.octopart.com/EB21A-02-D-Adam-Tech-datasheet-62111996.pdf?src-supplier=TME; ComponentLink4Description: https://datasheet.octopart.com/EB21A-02-D-Adam-Tech-datasheet-62111996.pdf?src-supplier=TME; ComponentLink5URL: https://datasheet.octopart.com/EB21A-02-D-Adam-Tech-datasheet-134867641.pdf?src-supplier=Electro+Sonic; ComponentLink5Description: https://datasheet.octopart.com/EB21A-02-D-Adam-Tech-datasheet-134867641.pdf?src-supplier=Electro+Sonic; LCSC PART #: C8404
footprint Termianl Block 2P P5MM
pins: 1, 2

## Terminal Block 4P
designator J?
TERMINAL: 5.08 pitch 4P, Screw Terminal block
footprint Terminal Block 4P P5MM
pins: 1, 2, 3, 4

## Test Pad
designator TP?
TESTPAD: Test Pad
footprint Test Pad FP
pins: 1

## TL431 TH
designator U?
DIODE: 2.495V~36V 100mA Adjustable TO-92 Voltage Reference ROHS; LCSC Part #: C351447
footprint SOT-23-3
pins: 1 REF, 2 A, 3 C

## TL431AIDBZR
designator U?
DIODE: 2.495V~36V ±1% 100mA Adjustable SOT-23 Voltage Reference ROHS; LCSC Part #: C23892
footprint SOT-23-3
pins: 1 C, 2 REF, 3 A
text: TL431 SMD

## TNPN
designator Q?
Transistor PNP
footprint SOT-23-3
pins: 1 B, 2 E, 3 C

## TP5400
designator IC?
LDO: REG 5V 1.2A / FP: ESOP-8 / VSSOP-8
footprint SOIC127P600X175-9N
pins: 1 VOUT, 2 CHRG, 3 PROG, 4 STDBY, 5 VCC, 6 BAT, 7, 8 LX
text: VSSOP-8

## TPNP
designator Q?
Transistor PNP
footprint SOT-23-3
pins: 1 B, 2 E, 3 C

## TPS5430DDAR
designator IC?
SMPS: IC REG BUCK ADJ 3A 8SOPWR / FP: SOIC 8 (8-PowerSOIC); LCSC PART #: C9864
footprint SOIC-8-EP
pins: 1 BOOT, 2 NC_1, 3 NC_2, 4 VSENSE, 5 ENA, 6 GND, 7 VIN, 8 PH, 9 EP
text: SOIC-9

## TPS5450DDAR
designator IC?
SMPS: IC REG BUCK ADJ 5A 8SOPWR / FP: SOIC 8 (8-PowerSOIC); Manufacturer_Name: Texas Instruments; Datasheet Link: http://www.ti.com/general/docs/suppproductinfo.tsp?distId=10&gotoUrl=http%3A%2F%2Fwww.ti.com%2Flit%2Fgpn%2Ftps5450; Height: 1.7mm; Manufacturer_Part_Number: TPS5450DDAR; Mouser Part Number: 595-TPS5450DDAR; Mouser Price/Stock: https://www.mouser.co.uk/ProductDetail/Texas-Instruments/TPS5450DDAR?qs=h%2FYsCRHtaqPaz8oWBdcCug%3D%3D; Arrow Part Number: TPS5450DDAR; Arrow Price/Stock: https://www.arrow.com/en/products/tps5450ddar/texas-instruments?region=nac
footprint SOIC127 EPAD 9N (SOIC127P600X175-9N)
pins: 1 BOOT, 2 NC_1, 3 NC_2, 4 VSENSE, 5 ENA, 6 GND, 7 VIN, 8 PH, 9 EP
text: SOIC-8

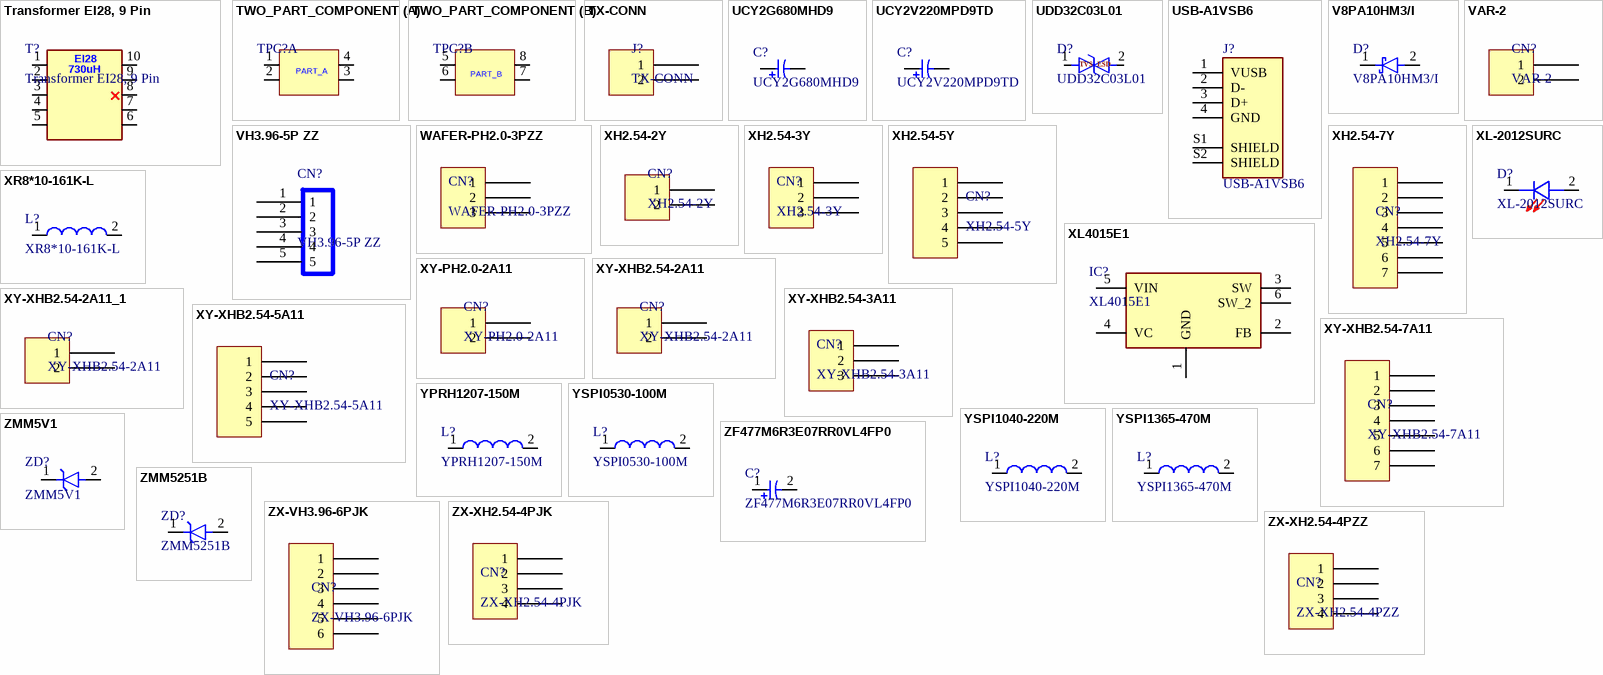
[diagram p9: symbols Transformer EI28, 9 Pin to ZX-XH2.54-4PZZ]

## Transformer EI28, 9 Pin
designator T?
Transformer EI28, 9 Pin, 730uH, SMPS 7.8V
footprint Transformer EI28, 9 Pin
pins: 1, 2, 3, 4, 5, 6, 7, 8, 9, 10
text: EI28; 730uH

## TWO_PART_COMPONENT
designator TPC?
part A pins: 1, 2, 3, 4
part B pins: 5, 6, 7, 8
part A text: PART_A
part B text: PART_B

## TX-CONN
designator J?
TX WIRE TO BOARD
footprint 1 Hole Pin Battery (1.5mm)
pins: 1, 2

## UCY2G680MHD9
designator C?
CAP: ALUM 68UF 20% 400V RADIAL TH / LS-7.5mm D16 H25; LCSC Part #: C250868
footprint CAP LS-7.5mm D16 H25
pins: 1, 2

## UCY2V220MPD9TD
designator C?
CAP: ALUM 22UF 20% 350V RADIAL TH / LS-5mm D10 H20; Manufacturer_Name: Nichicon; Datasheet Link: https://www.mouser.com/datasheet/2/293/e_ucy-3082387.pdf; Height: 21.5mm; Manufacturer_Part_Number: UCY2V220MPD9TD; Arrow Part Number: UCY2V220MPD9TD; Arrow Price/Stock: https://www.arrow.com/en/products/ucy2v220mpd9td/nichicon
footprint CAP LS-5.0mm D10 H12.5 (CAP LS-5mm D10)
pins: N, P

## UDD32C03L01
designator D?
DIODE TVS: 3.3V 19A 15V 4V Bidirectional SOD-323 ESD and Surge Protection (TVS/ESD) ROHS; LCSC Part #: C78439
footprint SOD-323-2
pins: 1 K, 2 A
text: TVS; ESD

## USB-A1VSB6
designator J?
USB-A: USB TYPE-A_ Receptacle Connector 4 Position Through Hole; LCSC Part #: C3197681
footprint ONSHORE_USB-A1VSB6-6P (ONSHORE_USB-A1VSB6)
pins: 1 VUSB, 2 D-, 3 D+, 4 GND, S1 SHIELD, S2 SHIELD

## V8PA10HM3/I
designator D?
DIODE: SCHOTTKY 100V 8A DO-221BC (SMPA); LCSC Part #: C3757688
footprint DO-221BC (SMPA) (V8PA10M3I)
pins: 1, 2

## VAR-2
designator CN?
HOUSING: 7.92mm 1 P=7.92mm Housings (Wire To Board / Wire To Wire ) ROHS; LCSC Part #: C268107
pins: 1, 2

## VH3.96-5P ZZ
designator CN?
CONNECTOR: 1x5P VH 5P ,P=3.96mm Wire To Board Connector Brass Direct Insert Plugin; LCSC Part #: C5379871
footprint LS-3.96*5
pins: 1, 2, 3, 4, 5

## WAFER-PH2.0-3PZZ
designator CN?
CONNECTOR: 1*3P 2mm JST; LCSC Part #: C5359600
footprint JST 3P B3B-XH-AM (2.50mm)
pins: 1, 2, 3

## XH2.54-2Y
designator CN?
HOUSING: 2.5mm 2P; LCSC Part #: C7437229
pins: 1, 2

## XH2.54-3Y
designator CN?
HOUSING: 3P 2.5mm JST; LCSC Part #: C7437230
pins: 1, 2, 3

## XH2.54-5Y
designator CN?
HOUSING: 2.5mm 5P; LCSC Part #: C7437232
pins: 1, 2, 3, 4, 5

## XH2.54-7Y
designator CN?
HOUSING: 2.5MM 7PINS; LCSC Part #: C7437234
pins: 1, 2, 3, 4, 5, 6, 7

## XL4015E1
designator IC?
SMPS: TO-263-5 Step-down type 5A 8V~36V / TO-263-5; LCSC PART #: C51661
footprint TO-263-5
pins: 1 GND, 2 FB, 3 SW, 4 VC, 5 VIN, 6 SW_2

## XL-2012SURC
designator D?
LED: 20mA 615nm~630nm Red 120° 50mW 2.3V 1206; LCSC Part #: C965812
footprint 0805-LED-RED (0805-LED)
pins: 1, 2

## XR8*10-161K-L
designator L?
INDUCTOR: 160uH EI-core Inductor ±10% Plugin,D10xL12mm Power Inductors ROHS; LCSC Part #: C5351405
footprint 5MM-Inductor
pins: 1, 2

## XY-PH2.0-2A11
designator CN?
CONN JST: 1*2P 2MM Wire to Board; LCSC Part #: C19271335
footprint JST B2B-PH-K (2.0mm)
pins: 1, 2

## XY-XHB2.54-2A11
designator CN?
CONNECTOR: 2.5mm 2P; LCSC Part #: C19271386
footprint JST XH B2B-XH-A (2.5mm)
pins: 1, 2

## XY-XHB2.54-2A11_1
designator CN?, comment XY-XHB2.54-2A11
CONNECTOR: 2.5mm 2P; LCSC Part #: C19271386
footprint JST XH B2B-XH-A (2.5mm)
pins: 1, 2

## XY-XHB2.54-3A11
designator CN?
CONNECTOR: 2.5mm; LCSC Part #: C19271387
footprint JST XH B3B-XH-A (2.5mm)
pins: 1, 2, 3

## XY-XHB2.54-5A11
designator CN?
CONNECTOR: 2.5mm 5P; LCSC Part #: C19271389
footprint JST XH B5B-XH-A (2.5mm)
pins: 1, 2, 3, 4, 5

## XY-XHB2.54-7A11
designator CN?
CONNECTOR: 1x7P 7P 1 2.54mm  2A Direct Insert Plugin,P=2.54mm Wire To Board; LCSC Part #: C19271391
footprint JST XH B7B-XH-A (2.5mm)
pins: 1, 2, 3, 4, 5, 6, 7

## YPRH1207-150M
designator L?
INDUCTOR: 15uH 4.5A Shielded inductor ±20% SMD,12x12mm; LCSC Part #: C339949
footprint INDUCTOR LS-10 D12X12 (INDUCTOR 12X12, 10MM)
pins: 1, 2

## YSPI0530-100M
designator L?
INDUCTOR: 10UH 2.5A ±20% SMD,5.4x5.2x3mm Power Inductors; LCSC PART #: C351099
footprint INDUCTOR D6.2X6.2
pins: 1, 2

## YSPI1040-220M
designator L?
INDUCTOR: 22uH 5A Integrated molded inductor ±20% SMD,10x11.5mm Power Inductors ROHS; LCSC Part #: C351107
footprint INDUCTOR LS-10 D12X12 (INDUCTOR 12X12, 10MM)
pins: 1, 2

## YSPI1365-470M
designator L?
INDUCTOR: 47UH 5A ±20% Power Inductors ROHS / SMD LS-11MM D12.6x13.8
footprint INDUCTOR LS-11 D12.6X13.8
pins: 1, 2

## ZF477M6R3E07RR0VL4FP0
designator C?
CAP: ALUM 470uF 10V ±20% Plugin,D6.3xL12mm Aluminum Electrolytic Capacitors - Leaded ROHS; LCSC PART #: C43328
footprint CAP LS-2.5mm D6.3 H7
pins: 1, 2

## ZMM5V1
designator ZD?
500mW 5.1V / FP: LL-34, DO-213AC, MINI-MELF, SOD-80; LCSC PART #: C5345992
footprint LL-34, DO-213AC, MINI-MELF, SOD-80
pins: 1, 2

## ZMM5251B
designator ZD?
DIODE: ZENER 22V 500MW MINI MELF(LL-34); LCSC Part #: C5359959
footprint LL-34, DO-213AC, MINI-MELF, SOD-80
pins: 1, 2

## ZX-VH3.96-6PJK
designator CN?
HOUSING: 3.96mm 1x6P VH 6 1 With locking buckle P=3.96mm Housings (Wire To Board / Wire To Wire ) ROHS; LCSC Part #: C19270923
pins: 1, 2, 3, 4, 5, 6

## ZX-XH2.54-4PJK
designator CN?
HOUSING: 2.5MM 4 PINS; LCSC Part #: C7462724
pins: 1, 2, 3, 4

## ZX-XH2.54-4PZZ
designator CN?
CONNECTOR: 2.5MM 4 PINS; LCSC Part #: C7429634
footprint JST XH B4B-XH-A (2.5MM)
pins: 1, 2, 3, 4